# Altium footprint library SnapEDApcb.PcbLib: 1 footprints
Each footprint in its own frame and in the unit in brackets; x right, y up, seen from the top. Pads: shape width x height; smd on the part's side, far side on the other; paste and mask are expansions set on the pad; w line width, h text height; cw(c..) or ccw(c..) is an arc to the next point about the centre after c.
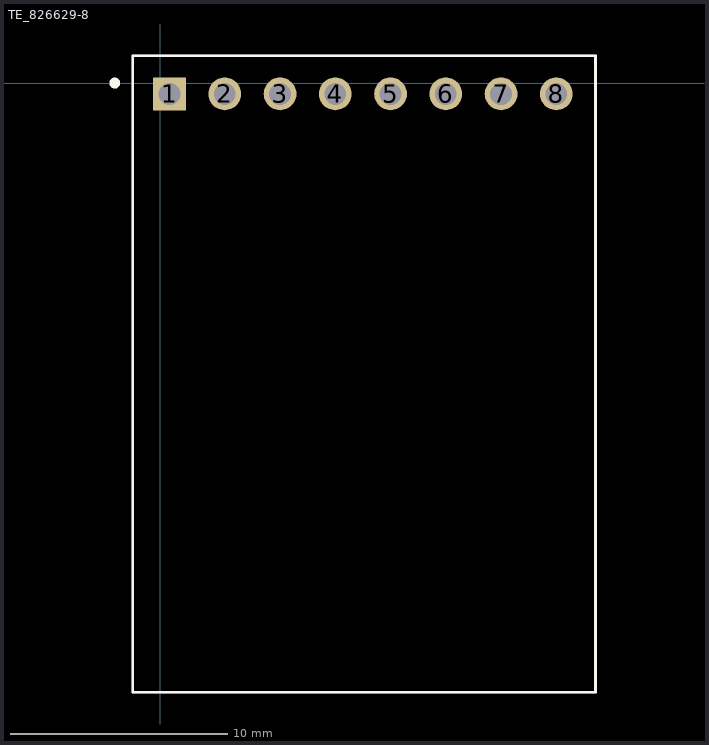
[diagram p0: the footprint, top view; thin cyan lines are the x and y axes]

## TE_826629-8 [mm]
pads (8):
  rect 1.508x1.508 hole 1: 1(0.42,-0.5)
  round 1.508 hole 1: 2(2.96,-0.5) 3(5.5,-0.5) 4(8.04,-0.5) 5(10.58,-0.5) 6(13.12,-0.5) 7(15.66,-0.5) 8(18.2,-0.5)
Top Overlay:
  circle w0.3: c-2.1,0 r0.1
  lines w0.127: -1.27,-28 -1.27,1.25 20,1.25 20,-28 -1.27,-28
Mechanical 13:
  lines w0.127: -1.27,-28 -1.27,1.25 20,1.25 20,-28 -1.27,-28